# EAGLE library part IMSC011M2* (library AMD_Taxi)
INMOS Link Adaptor Mode 2
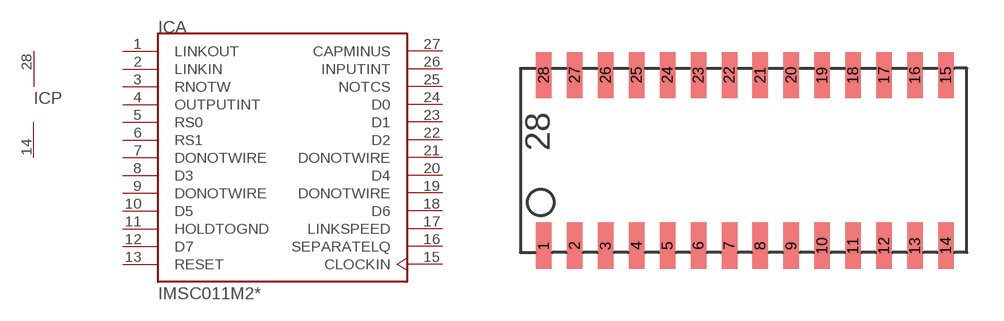
[diagram p9: symbol with the pads of SOJ28-3; footprint SOJ28-3]

Designator prefix IC; gates A=IMSC011M2 P=PWRN

## IMSC011M2-E20S  [SOJ28-3]
1  A:LINKOUT  out
2  A:LINKIN  in
3  A:RNOTW  in
4  A:OUTPUTINT  out
5  A:RS0  in
6  A:RS1  in
7  A:DONOTWIRE  nc
8  A:D3
9  A:DONOTWIRE  nc
10  A:D5
11  A:HOLDTOGND  pwr
12  A:D7
13  A:RESET  in
14  P:GND  pwr
15  A:CLOCKIN
16  A:SEPARATELQ  in
17  A:LINKSPEED  in
18  A:D6
19  A:DONOTWIRE  nc
20  A:D4
21  A:DONOTWIRE  nc
22  A:D2
23  A:D1
24  A:D0
25  A:NOTCS  in
26  A:INPUTINT  out
27  A:CAPMINUS  pwr
28  P:VCC  pwr

## Footprint SOJ28-3 (pad centres in mm)
smd 0.635 x 1.905: 1 -7.62,-3.505; 2 -6.35,-3.505; 3 -5.08,-3.505; 4 -3.81,-3.505; 5 -2.54,-3.505; 6 -1.27,-3.505; 7 0,-3.505; 8 1.27,-3.505; 9 2.54,-3.505; 10 3.81,-3.505; 11 5.08,-3.505; 12 6.35,-3.505; 13 7.62,-3.505; 14 8.89,-3.505; 15 8.89,3.505; 16 7.62,3.505; 17 6.35,3.505; 18 5.08,3.505; 19 3.81,3.505; 20 2.54,3.505; 21 1.27,3.505; 22 0,3.505; 23 -1.27,3.505; 24 -2.54,3.505; 25 -3.81,3.505; 26 -5.08,3.505; 27 -6.35,3.505; 28 -7.62,3.505